# Altium schematic symbol library DC-DC.SchLib: 5 symbols
Pins are listed as number, name and electrical type; pins without a type are passive.

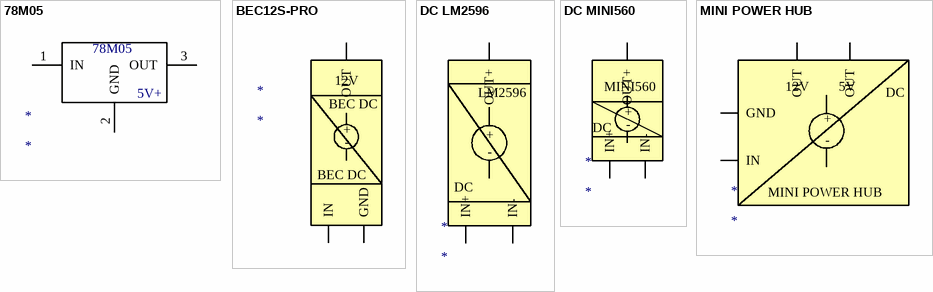
[diagram p0: symbols 78M05 to MINI POWER HUB]

## 78M05
designator *
78M05 +5V
footprint 78M05
pins: 1 IN, 2 GND, 3 OUT
text: 5V+

## BEC12S-PRO
designator *
DC-DC BEC12S-PRO
footprint BEC12S-PRO
pins: 1 IN (power), 2 GND (power), 3 OUT (power)
text: 12V; BEC DC; +; -

## DC LM2596
designator *
LM2596 DC-DC
footprint DC LM2596
pins: 1 IN+ (power), 2 IN- (power), 3 OUT+ (power)
text: LM2596; +; -; DC

## DC MINI560
designator *
MINI560 PRO DC-DC
footprint MINI560
pins: 1 IN+ (power), 2 IN- (power), 3 OUT+ (power)
text: MINI560; +; DC; -

## MINI POWER HUB
designator *
DC-DC MINU POWER HUB BEC 5V & 12V
footprint MINI POWER HUB
pins: 1 IN (power), 2 GND (power), 3 OUT (power), 4 OUT (power)
text: 12V; 5V; DC; +; -